# Altium schematic symbol library PCB_Project.SCHLIB: 11 symbols
Pins are listed as number, name and electrical type; pins without a type are passive.

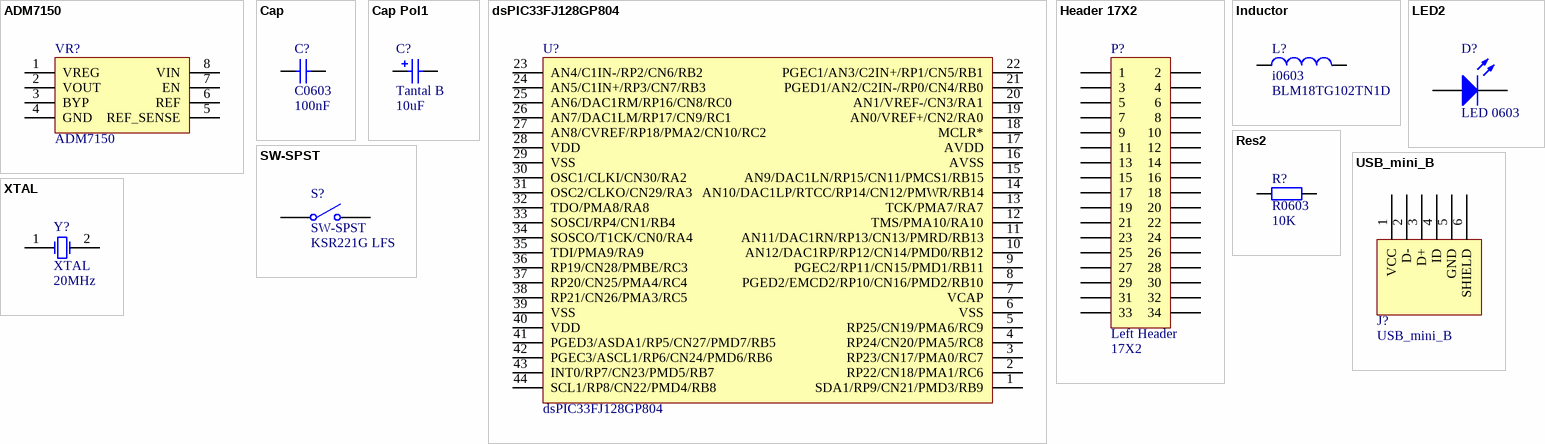
[diagram p0: symbols ADM7150 to XTAL]

## ADM7150
designator VR?
800 mA Ultralow Noise,  High PSRR, RF Linear Regulator
footprint ADM7150_SOIC8 (SOIC, 8-Leads, Body 4,90x3,90mm, Pitch 1,27mm, Thermal Pad 6,00x2,41mm, IPC Medium Density)
pins: 1 VREG, 2 VOUT, 3 BYP, 4 GND, 5 REF_SENSE, 6 REF, 7 EN, 8 VIN

## Cap
designator C?, comment C0603  value 100nF
Ceramic Capacitor
footprint 0603_HandSoldering (Chip Resistor, 2-Leads, Body 1.6x0.8mm, IPC Medium Density)
pins: 1, 2

## Cap Pol1
designator C?, comment Tantal B  value 10uF
Tantalum Capacitor
footprint AVX-CAPC3528_V (SMT Capacitor, 2 Leads, Body 3.5x2.8mm)
pins: 1, 2
1 alternate drawing of the same symbol

## dsPIC33FJ128GP804
designator U?
dsPIC 40 MIPS
footprint dsPIC33FJ128GP804_TQFP44 (TQFP, 44-Leads, Body 12,0x12,0mm (max), Pitch 0,80mm, IPC Medium Density)
pins: 1 SDA1/RP9/CN21/PMD3/RB9, 2 RP22/CN18/PMA1/RC6, 3 RP23/CN17/PMA0/RC7, 4 RP24/CN20/PMA5/RC8, 5 RP25/CN19/PMA6/RC9, 6 VSS, 7 VCAP, 8 PGED2/EMCD2/RP10/CN16/PMD2/RB10, 9 PGEC2/RP11/CN15/PMD1/RB11, 10 AN12/DAC1RP/RP12/CN14/PMD0/RB12, 11 AN11/DAC1RN/RP13/CN13/PMRD/RB13, 12 TMS/PMA10/RA10, 13 TCK/PMA7/RA7, 14 AN10/DAC1LP/RTCC/RP14/CN12/PMWR/RB14, 15 AN9/DAC1LN/RP15/CN11/PMCS1/RB15, 16 AVSS, 17 AVDD, 18 MCLR*, 19 AN0/VREF+/CN2/RA0, 20 AN1/VREF-/CN3/RA1, 21 PGED1/AN2/C2IN-/RP0/CN4/RB0, 22 PGEC1/AN3/C2IN+/RP1/CN5/RB1, 23 AN4/C1IN-/RP2/CN6/RB2, 24 AN5/C1IN+/RP3/CN7/RB3, 25 AN6/DAC1RM/RP16/CN8/RC0, 26 AN7/DAC1LM/RP17/CN9/RC1, 27 AN8/CVREF/RP18/PMA2/CN10/RC2, 28 VDD, 29 VSS, 30 OSC1/CLKI/CN30/RA2, 31 OSC2/CLKO/CN29/RA3, 32 TDO/PMA8/RA8, 33 SOSCI/RP4/CN1/RB4, 34 SOSCO/T1CK/CN0/RA4, 35 TDI/PMA9/RA9, 36 RP19/CN28/PMBE/RC3, 37 RP20/CN25/PMA4/RC4, 38 RP21/CN26/PMA3/RC5, 39 VSS, 40 VDD, 41 PGED3/ASDA1/RP5/CN27/PMD7/RB5, 42 PGEC3/ASCL1/RP6/CN24/PMD6/RB6, 43 INT0/RP7/CN23/PMD5/RB7, 44 SCL1/RP8/CN22/PMD4/RB8

## Header 17X2
designator P?, comment Left Header  value 17X2
Header, 17-Pin, Dual row
footprint HDR2X17 (Connector; Header; 17x2 Position)
pins: 1, 2, 3, 4, 5, 6, 7, 8, 9, 10, 11, 12, 13, 14, 15, 16, 17, 18, 19, 20, 21, 22, 23, 24, 25, 26, 27, 28, 29, 30, 31, 32, 33, 34

## Inductor
designator L?, comment i0603  value BLM18TG102TN1D
Inductor
footprint 0603_HandSoldering (Chip Resistor, 2-Leads, Body 1.6x0.8mm, IPC Medium Density)
pins: 1, 2

## LED2
designator D?, comment LED 0603
SMD LED 0603
footprint 0603_LED (SMD LED, Body 1.6x0.8mm)
pins: 1 A, 2 K

## Res2
designator R?, comment R0603  value 10K
Resistor
footprint 0603_HandSoldering (Chip Resistor, 2-Leads, Body 1.6x0.8mm, IPC Medium Density)
pins: 1, 2

## SW-SPST
designator S?  value KSR221G LFS
KSR221G LFS Tactile Switch
footprint KSR221G_LFS_Tactile_Switch (C & K COMPONENTS  KSR221G LFS  SWITCH, SPST, 0.05A, 32VDC, SMD)
pins: 1 COMMON, 2 NO

## USB_mini_B
designator J?
USB 2.0 mini B receptacle
footprint USB mini B receptacle (popravek)
pins: 1 VCC, 2 D-, 3 D+, 4 ID, 5 GND, 6 SHIELD

## XTAL
designator Y?  value 20MHz
TXC  7A-20.000MAAJ-T  XTAL
footprint TXC  7A-20.000MAAJ-T  XTAL (TXC  7A-20.000MAAJ-T  XTAL, 20.000MHZ, 18PF, SMD, 5.0X3.2)
pins: 1 OSC1, 2 OSC2